# Altium footprint library DIN.PcbLib: 3 footprints
Each footprint in its own frame and in the unit in brackets; x right, y up, seen from the top. Pads: shape width x height; smd on the part's side, far side on the other; paste and mask are expansions set on the pad; w line width, h text height; cw(c..) or ccw(c..) is an arc to the next point about the centre after c.
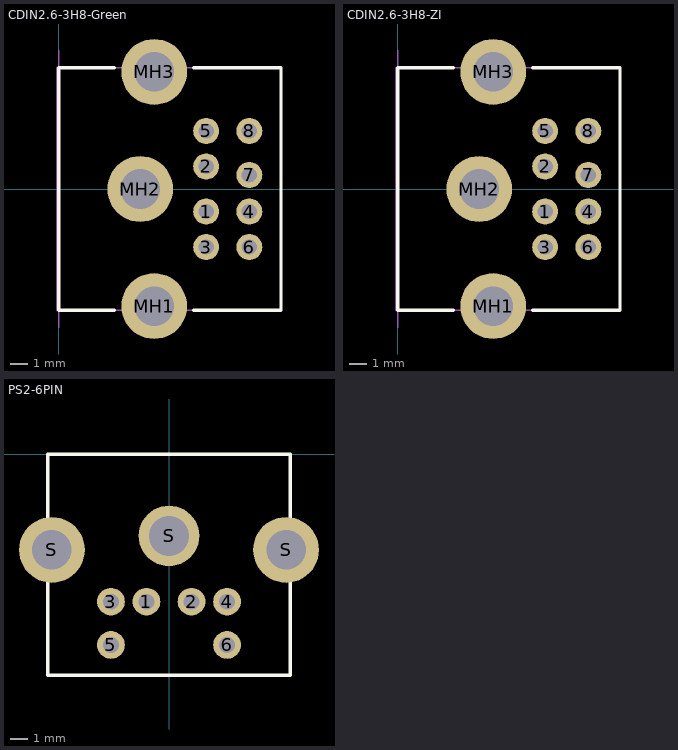
[diagram p0: the footprints below, top view; thin cyan lines are the x and y axes]

## CDIN2.6-3H8-Green [mm] "Connector; Circular DIN, Thru-Hole; 8 Position; Right Angle; Pitch 2.05/2.6 mm; Body 14 x 12.83 x 13 mm (WxTxH), Shielded, Special PCB Retention"
height 13
pads (11):
  round 1.5 hole 0.89: 1(8.51,-1.3) 2(8.51,1.3) 3(8.51,-3.35) 4(11,-1.3) 5(8.51,3.35) 6(11,-3.35) 7(11,0.81) 8(11,3.35)
  round 3.8 hole 2.29: MH1(5.51,-6.76) MH2(4.7,0) MH3(5.51,6.76)
Top Overlay:
  lines w0.2: 3.2,-7 0,-7 0,7 3.2,7 ; 7.8,-7 12.83,-7 12.83,7 7.8,7
Mechanical 1:
  lines w0.1: 0,-8 0,8
  text "PCB Edge" at 0.6,-6.6 h0.25
Mechanical 13:
  lines w0.1: -0.102,-7 12.83,-7 12.83,7 -0.102,7 -0.102,-7
3D body: height 13.1, standoff -3.47, extent -0.102,-7 12.94,7

## CDIN2.6-3H8-ZI [mm] "Connector; Circular DIN, Thru-Hole; 8 Position; Right Angle; Pitch 2.05/2.6 mm; Body 14 x 12.83 x 13 mm (WxTxH), Shielded, Special PCB Retention"
height 13
pads (11):
  round 1.5 hole 0.89: 1(8.51,-1.3) 2(8.51,1.3) 3(8.51,-3.35) 4(11,-1.3) 5(8.51,3.35) 6(11,-3.35) 7(11,0.81) 8(11,3.35)
  round 3.8 hole 2.29: MH1(5.51,-6.76) MH2(4.7,0) MH3(5.51,6.76)
Top Overlay:
  lines w0.2: 3.2,-7 0,-7 0,7 3.2,7 ; 7.8,-7 12.83,-7 12.83,7 7.8,7
Mechanical 1:
  lines w0.1: 0,-8 0,8
  text "PCB Edge" at 0.6,-6.6 h0.25
Mechanical 13:
  lines w0.1: -0.102,-7 -0.102,7 12.83,7 12.83,-7 -0.102,-7
3D body: height 13.1, standoff -3.47, extent -0.102,-7 12.94,7

## PS2-6PIN [mm] "PS2 Socket, 6 Pin, Through Hole"
pads (9):
  round 1.6 hole 0.9: 1(-1.3,-8.5) 2(1.3,-8.5) 3(-3.35,-8.5) 4(3.35,-8.5) 5(-3.35,-11) 6(3.35,-11)
  round 3.8 hole 2.29: S(-6.76,-5.51) S(6.76,-5.51)
  round 3.5 hole 2.3: S(0,-4.7)
Top Overlay:
  lines w0.2: -7,-12.75 7,-12.75 7,0 -7,0 -7,-12.75
Mechanical 13:
  lines w0.1: 0,0 0,0.1
3D body: height 13.1, standoff -3.47, extent -7,-12.941 7,0.1